# Altium footprint library AIRZAI_LID_BD_REVA.PcbLib: 57 footprints (part 3 of 4)
Each footprint in its own frame and in the unit in brackets; x right, y up, seen from the top. Pads: shape width x height; smd on the part's side, far side on the other; paste and mask are expansions set on the pad; w line width, h text height; cw(c..) or ccw(c..) is an arc to the next point about the centre after c.
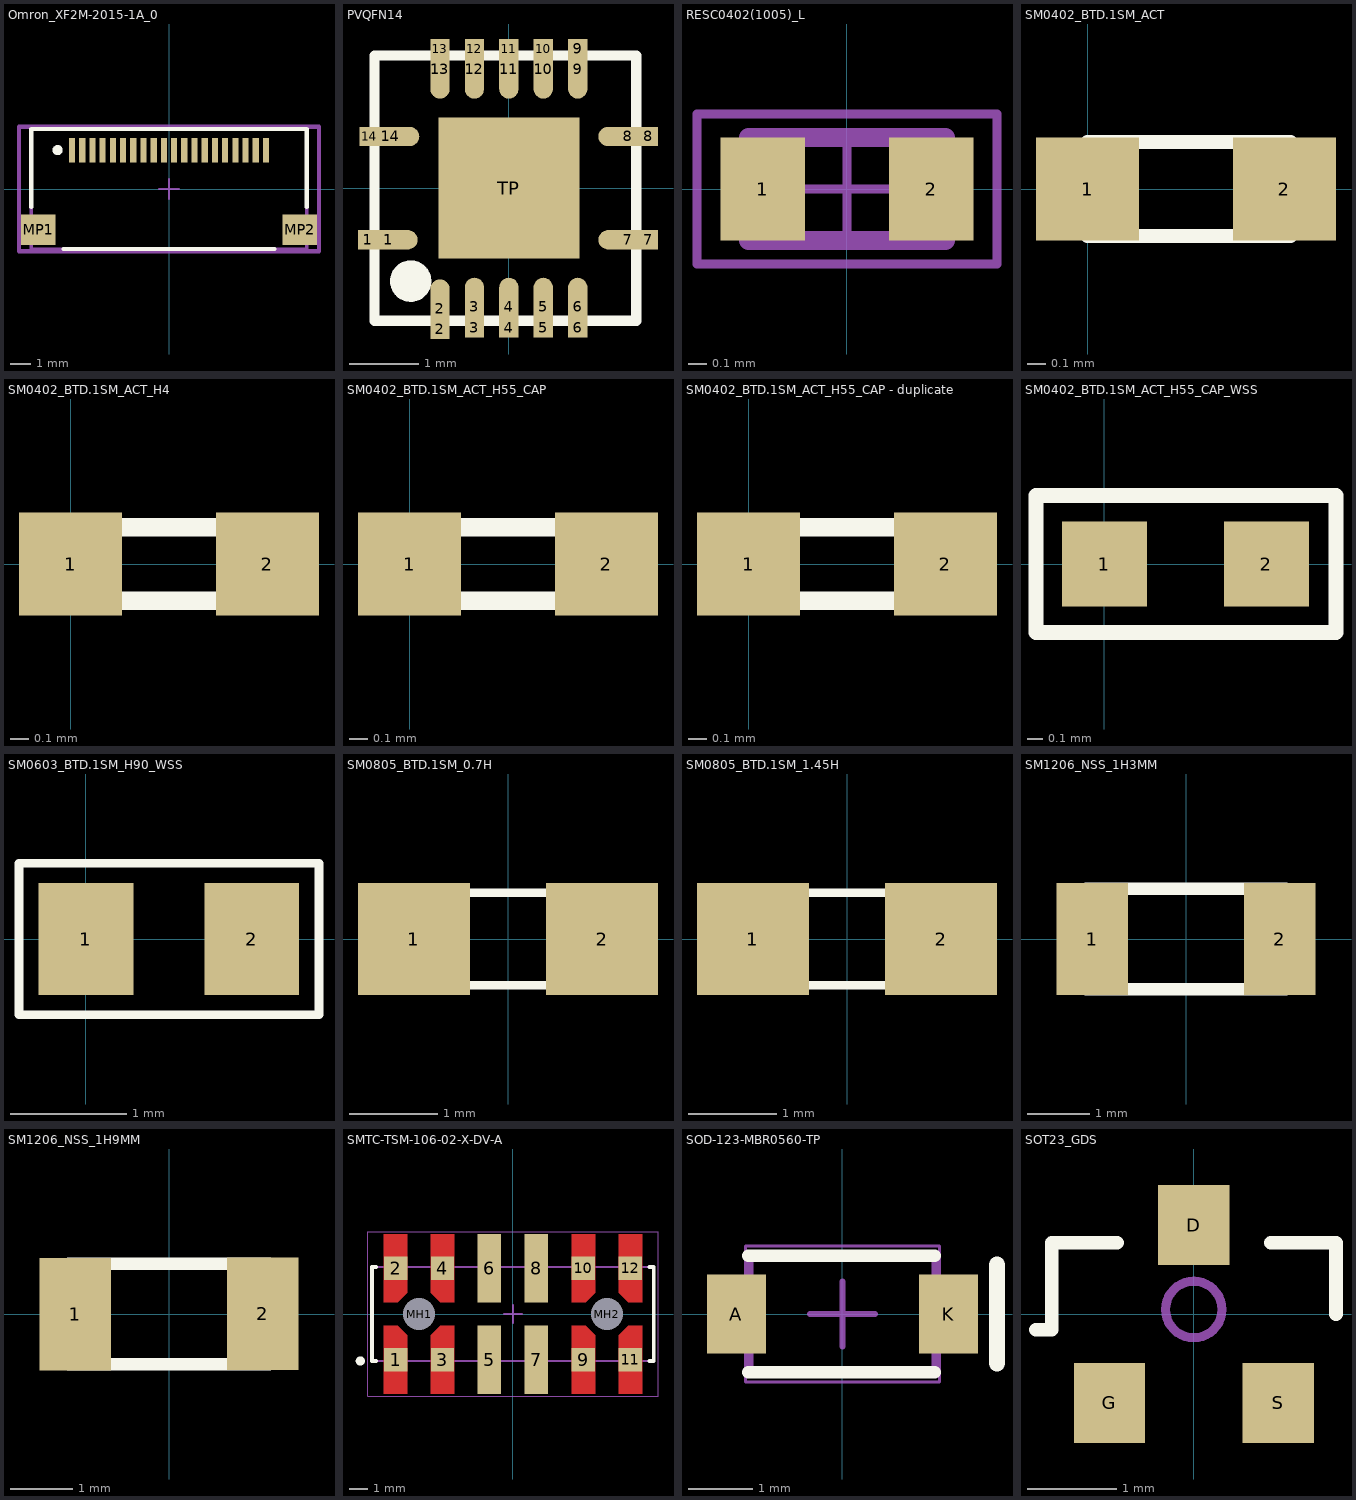
[diagram p2: the footprints below, top view; thin cyan lines are the x and y axes]

## Omron_XF2M-2015-1A_0 [mm]
pads (22):
  rect 0.3x1.2 smd paste+0: 1(-4.75,1.9) 2(-4.25,1.9) 3(-3.75,1.9) 4(-3.25,1.9) 5(-2.75,1.9) 6(-2.25,1.9) 7(-1.75,1.9) 8(-1.25,1.9) 9(-0.75,1.9) 10(-0.25,1.9) 11(0.25,1.9) 12(0.75,1.9) 13(1.25,1.9) 14(1.75,1.9) 15(2.25,1.9) 16(2.75,1.9) 17(3.25,1.9) 18(3.75,1.9) 19(4.25,1.9) 20(4.75,1.9)
  rect 1.7x1.5 smd paste+0: MP1(-6.4,-2) MP2(6.4,-2)
Top Overlay:
  circle w0.25: c-5.461,1.905 r0.125
  lines w0.2: -6.75,-0.875 -6.75,2.95 6.75,2.95 6.75,-0.875 ; -5.175,-2.95 5.175,-2.95
Mechanical 10:
  lines w0.2: -7.35,-3.05 7.35,-3.05 7.35,3.05 -7.35,3.05 -7.35,-3.05
  text ".Designator" at 0,0 h1
Mechanical 12:
  lines w0.15: -6.75,-2.95 6.75,-2.95 6.75,2.95 -6.75,2.95 -6.75,-2.95
Mechanical 15:
  lines w0.1: -0.5,0 0.5,0 ; 0,-0.5 0,0.5
  lines w0.2: -7.35,-3.05 7.35,-3.05 7.35,3.05 -7.35,3.05 -7.35,-3.05
3D body "XF2M_2015_1A.step": height 2, standoff 0, extent -7.05,-2.921 7.05,2.979

## PVQFN14 [mm] "PVQFN 14PIN 3.65X3.65"
height 1
pads (29):
  rect 0.28x0.28 smd paste-0.025 mask+0.07: 1(-2.05,-0.75) 2(-1,-2.05) 3(-0.5,-2.025) 4(0,-2.025) 5(0.5,-2.025) 6(1,-2.025) 7(2.025,-0.75) 8(2.025,0.75) 9(1,2.025) 10(0.5,2.025) 11(0,2.025) 12(-0.5,2.025) 13(-1,2.025) 14(-2.025,0.75)
  rrect100% 0.85x0.28 smd paste-0.025 mask+0.07: 1(-1.75,-0.75) 7(1.725,-0.75) 8(1.725,0.75) 14(-1.725,0.75)
  rrect100% 0.28x0.85 smd paste-0.025 mask+0.07: 2(-1,-1.75) 3(-0.5,-1.725) 4(0,-1.725) 5(0.5,-1.725) 6(1,-1.725) 9(1,1.725) 10(0.5,1.725) 11(0,1.725) 12(-0.5,1.725) 13(-1,1.725)
  rect 2.05x2.05 smd paste-5 mask+0.07: TP(0,0)
Top Overlay:
  circle w0.3: c-1.425,-1.35 r0.15
  lines w0.15: -1.95,-1.925 1.85,-1.925 1.85,1.925 -1.95,1.925 -1.95,-1.925
Top Paste:
  rectangle: -0.95,-0.95 -0.15,-0.15
  rectangle: 0.15,-0.95 0.95,-0.15
  rectangle: 0.15,0.15 0.95,0.95
  rectangle: -0.95,0.15 -0.15,0.95
3D body: height 1, standoff 0, extent -1.825,-1.825 1.75,1.825

## RESC0402(1005)_L [mm] "Chip Resistor, Body 1.0x0.5mm, IPC High Density"
height 0.4
pads (2):
  rect 0.45x0.55 smd: 1(-0.45,0) 2(0.45,0)
Mechanical 13:
  lines w0.1: -0.525,-0.275 0.525,-0.275 0.525,0.275 -0.525,0.275 -0.525,-0.275
Mechanical 15:
  lines w0.05: -0.275,0 0.275,0 ; 0,-0.275 0,0.275 ; -0.8,-0.4 0.8,-0.4 0.8,0.4 -0.8,0.4 -0.8,-0.4
3D body: height 0.4, standoff 0, extent 0.3,-0.275 0.525,0.275
3D body: height 0.4, standoff 0, extent -0.3,-0.275 0.3,0.275
3D body: height 0.4, standoff 0, extent -0.525,-0.275 -0.3,0.275

## SM0402_BTD.1SM_ACT [mil]
height 275.59
pads (2):
  rect 22x22 smd mask+4: 1(0,0) 2(42,0)
Top Overlay:
  lines w2.99: 0,-10 43.27,-10 43.27,10 0,10 0,-10
3D body: height 23.62, standoff 0, extent -0.98,-9.84 44.29,9.84

## SM0402_BTD.1SM_ACT_H4 [mil]
height 15.75
pads (2):
  rect 22x22 smd mask+4: 1(0,0) 2(42,0)
Top Overlay:
  lines w3.94: 0.98,-7.87 42.32,-7.87 42.32,7.87 0.98,7.87 0.98,-7.87
3D body: height 19.68, standoff 0, extent -0.98,-9.84 44.29,9.84

## SM0402_BTD.1SM_ACT_H55_CAP [mil]
height 21.65
pads (2):
  rect 22x22 smd mask+2.76: 1(0,0) 2(42,0)
Top Overlay:
  lines w3.94: 0.98,-7.87 42.32,-7.87 42.32,7.87 0.98,7.87 0.98,-7.87
3D body: height 25.59, standoff 0, extent -0.98,-9.84 44.29,9.84

## SM0402_BTD.1SM_ACT_H55_CAP - duplicate [mil]
height 21.65
pads (2):
  rect 22x22 smd mask+2.76: 1(0,0) 2(42,0)
Top Overlay:
  lines w3.94: 0.98,-7.87 0.98,7.87 42.32,7.87 42.32,-7.87 0.98,-7.87
3D body: height 25.59, standoff 0, extent -0.98,-9.84 44.29,9.84

## SM0402_BTD.1SM_ACT_H55_CAP_WSS [mil]
pads (2):
  rect 22x22 smd mask+4: 1(0,0) 2(42,0)
Top Overlay:
  lines w3.94: -17.72,-17.72 60.04,-17.72 60.04,17.72 -17.72,17.72 -17.72,-17.72
3D body: height 25.59, standoff 0, extent -0.98,-9.84 44.29,9.84

## SM0603_BTD.1SM_H90_WSS [mil]
height 35.43
pads (2):
  rect 32x38 smd mask+4: 1(0,0) 2(56,0)
Top Overlay:
  lines w3: -22.64,-25.59 78.74,-25.59 78.74,25.59 -22.64,25.59 -22.64,-25.59
3D body: height 35.43, standoff 0, extent -3.94,-16.73 59.06,16.73

## SM0805_BTD.1SM_0.7H [mil]
height 27.56
pads (2):
  rect 50x50 smd: 1(-42,0) 2(42,0)
Top Overlay:
  lines w3.94: -41.34,-20.67 -41.34,20.67 41.34,20.67 41.34,-20.67 -41.34,-20.67
3D body: height 29.53, standoff 0, extent -43.31,-22.64 43.31,22.64

## SM0805_BTD.1SM_1.45H [mil] "CAP CER 16V 10% X7R 0805"
height 57.09
pads (2):
  rect 50x50 smd: 1(-42,0) 2(42,0)
Top Overlay:
  lines w3.94: -41.34,-20.67 -41.34,20.67 41.34,20.67 41.34,-20.67 -41.34,-20.67
3D body: height 57.09, standoff 0, extent -43.31,-22.64 43.31,22.64

## SM1206_NSS_1H3MM [mm] "CAP_1206_1.3MM_HIGH"
height 1.3
pads (2):
  rect 1.15x1.8 smd: 1(-1.5,0) 2(1.5,0)
Top Overlay:
  lines w0.15: -1.625,-0.825 -1.625,0.825 1.625,0.825 1.625,-0.825 -1.625,-0.825
  lines w0.2: -1.6,-0.8 1.6,-0.8 1.6,0.8 -1.6,0.8 -1.6,-0.8
3D body: height 1.3, standoff 0.1, extent -1.7,-0.9 1.7,0.9

## SM1206_NSS_1H9MM [mm] "CAP_1206_1.9MM_HIGH"
height 1.9
pads (2):
  rect 1.15x1.8 smd: 1(-1.5,0) 2(1.5,0)
Top Overlay:
  lines w0.2: -1.6,-0.8 1.6,-0.8 1.6,0.8 -1.6,0.8 -1.6,-0.8
3D body: height 1.9, standoff 0, extent -1.7,-0.9 1.7,0.9

## SMTC-TSM-106-02-X-DV-A [mm] "Double Row Gullwing Asm, 2x6 Pins, Vertical, 2.54mm Pitch, Male"
height 12.19
pads (14):
  rect 1.27x1.27 smd: 1(-6.35,-2.475) 2(-6.35,2.475) 3(-3.81,-2.475) 4(-3.81,2.475) 9(3.81,-2.475) 10(3.81,2.475) 11(6.35,-2.475) 12(6.35,2.475)
  rect 1.27x3.68 smd: 5(-1.27,-2.475) 6(-1.27,2.475) 7(1.27,-2.475) 8(1.27,2.475)
  round 1.43 hole 1.73 unplated: MH1(-5.08,0) MH2(5.08,0)
Top Layer:
  region: -6.985,0.635 -6.225,0.635 -5.715,1.145 -5.715,4.315 -6.985,4.315
  region: -3.175,0.635 -3.935,0.635 -4.445,1.145 -4.445,4.315 -3.175,4.315
  region: 6.985,0.635 6.225,0.635 5.715,1.145 5.715,4.315 6.985,4.315
  region: 3.175,0.635 3.935,0.635 4.445,1.145 4.445,4.315 3.175,4.315
  region: 3.175,-0.635 3.935,-0.635 4.445,-1.145 4.445,-4.315 3.175,-4.315
  region: 6.985,-0.635 6.225,-0.635 5.715,-1.145 5.715,-4.315 6.985,-4.315
  region: -3.175,-0.635 -3.935,-0.635 -4.445,-1.145 -4.445,-4.315 -3.175,-4.315
  region: -6.985,-0.635 -6.225,-0.635 -5.715,-1.145 -5.715,-4.315 -6.985,-4.315
Top Overlay:
  circle w0.25: c-8.255,-2.54 r0.125
  lines w0.2: -7.385,-2.54 -7.62,-2.54 -7.62,2.54 -7.385,2.54 ; 7.385,-2.54 7.62,-2.54 7.62,2.54 7.385,2.54
Mechanical 13:
  lines w0.1: -7.62,-2.54 -7.62,2.54 7.62,2.54 7.62,-2.54 -7.62,-2.54
Mechanical 15:
  lines w0.05: -7.845,-4.44 -7.845,4.44 7.845,4.44 7.845,-4.44 -7.845,-4.44
  lines w0.1: -0.5,0 0.5,0 ; 0,-0.5 0,0.5
3D body "TSM-106-02-T-DV-A-TR.stp": height 11.94, standoff -1.27, extent -7.62,-3.721 7.62,3.721

## SOD-123-MBR0560-TP [mil] "SODFL, 2-Leads, Body 1.8x2.85mm, IPC Medium Density"
height 53.15
pads (2):
  rect 36x48.03 smd: A(-64.5,0) K(64.5,0)
Top Overlay:
  lines w7.87: -57.09,-35.43 56.1,-35.43 ; -57.09,35.43 56.1,35.43
  lines w10: 94,-30 94,30
Mechanical 13:
  lines w3.94: -56.1,-35.43 56.1,-35.43 56.1,35.43 -56.1,35.43 -56.1,-35.43
Mechanical 15:
  lines w1.97: -59.06,-41.34 59.06,-41.34 59.06,41.34 -59.06,41.34 -59.06,-41.34
  lines w3.94: -19.68,0 19.68,0 ; 0,-19.68 0,19.68
3D body "SW3DPS-SOD123-DEFAULT.STEP": height 52, standoff 2, extent -72.83,-31.49 72.84,31.51

## SOT23_GDS [mm]
height 1.2
pads (3):
  rect 0.8x0.9 smd: D(0,1)
  rect 0.8x0.9 smd paste-0.05 mask+0.07: G(-0.95,-1) S(0.95,-1)
Top Overlay:
  lines w0.152: -1.775,-0.175 -1.6,-0.175 -1.6,0.8 -0.864,0.8 ; 0.864,0.8 1.6,0.8 1.6,0
Mechanical 3:
  lines w0.102: -0.318,0.051 cw(c0,0.051) 0,0.368 cw(c0,0.051) 0.318,0.051 cw(c0,0.051) 0,-0.267 cw(c0,0.051) -0.318,0.051
3D body: height 1.2, standoff 0, extent -1.5,-0.7 1.5,0.7